# EAGLE library part 2X5-W (library Pinhead)
Ph2x5-W
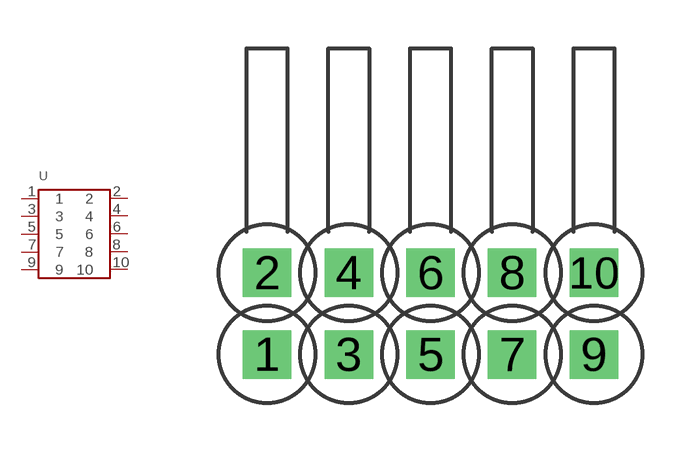
[diagram p9: symbol with the pads of 2X5-W; footprint 2X5-W]

Designator prefix -

## 2X5-W  [2X5-W]
1  1
2  2
3  3
4  4
5  5
6  6
7  7
8  8
9  9
10  10

## Footprint 2X5-W (pad centres in mm)
Ph2x5-W
drill 1 square: 1 -5.08,-1.27; 2 -5.08,1.27; 3 -2.54,-1.27; 4 -2.54,1.27; 5 0,-1.27; 6 0,1.27; 7 2.54,-1.27; 8 2.54,1.27; 9 5.08,-1.27; 10 5.08,1.27